# Altium schematic symbol library Ti.SchLib: 20 symbols
Pins are listed as number, name and electrical type; pins without a type are passive.

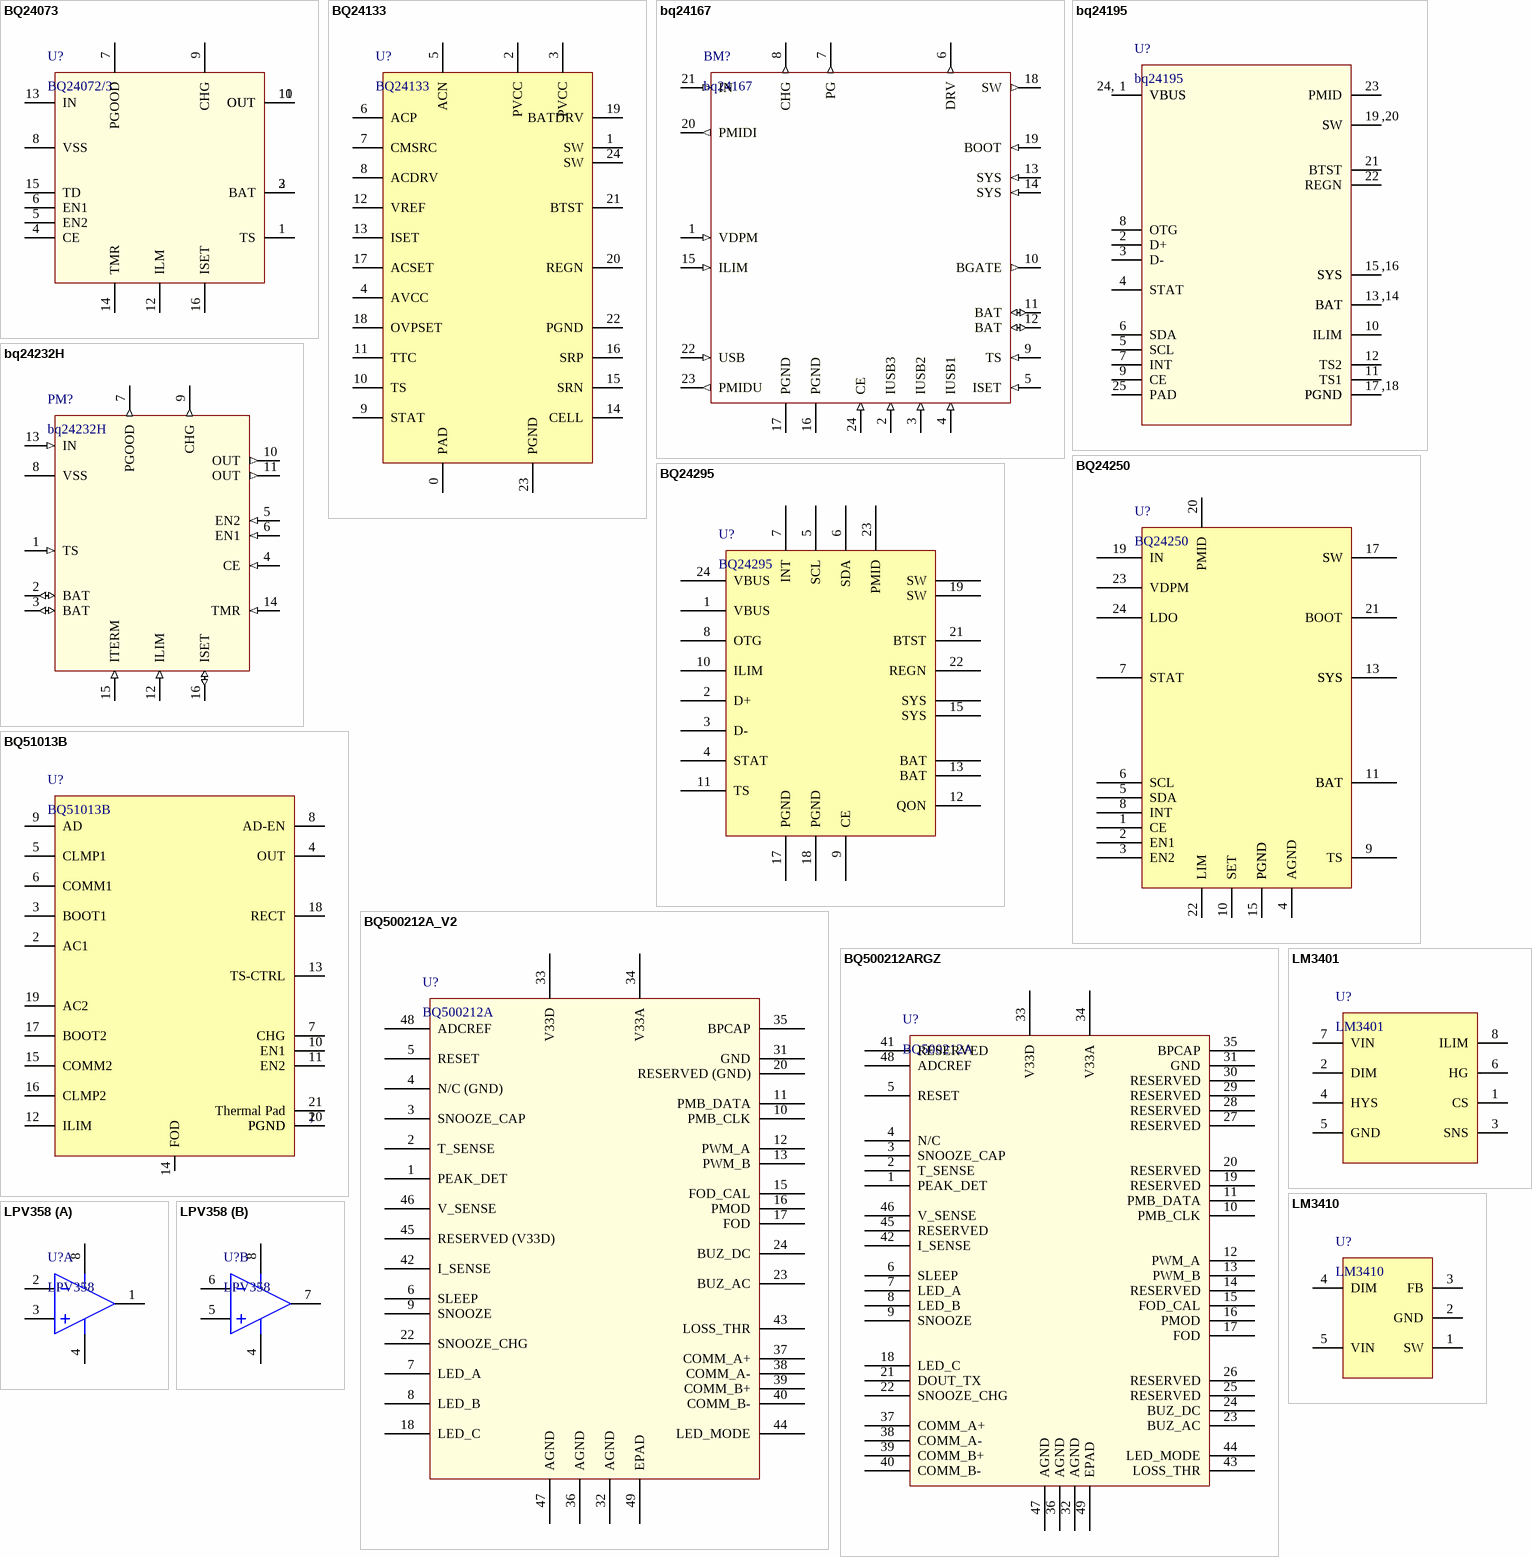
[diagram p0: symbols BQ24073 to LPV358]

## BQ24073
designator U?, comment BQ24072/3
Standalone Battery Management Chip
footprint QFN16
pins: 1 TS, 2 BAT, 3 BAT, 4 CE, 5 EN2, 6 EN1, 7 PGOOD, 8 VSS, 9 CHG, 10 OUT, 11 OUT, 12 ILM, 13 IN, 14 TMR, 15 TD, 16 ISET

## BQ24133
designator U?
1.6-MHz Synchronous Switched-Mode Li-Ion and Li-Polymer Stand-Alone Battery  Charger With Integrated MOSFETs and Power Path Selector
pins: 0 PAD, 1 SW, 2 PVCC, 3 PVCC, 4 AVCC, 5 ACN, 6 ACP, 7 CMSRC, 8 ACDRV, 9 STAT, 10 TS, 11 TTC, 12 VREF, 13 ISET, 14 CELL, 15 SRN, 16 SRP, 17 ACSET, 18 OVPSET, 19 BATDRV, 20 REGN, 21 BTST, 22 PGND, 23 PGND, 24 SW

## bq24167
designator BM?
2.5A, Dual-Input, Single Cell Switch Mode Li-Ion Battery Charger with Power Path  Management
pins: 1 VDPM (in), 2 IUSB3 (in), 3 IUSB2 (in), 4 IUSB1 (in), 5 ISET (in), 6 DRV (out), 7 PG (out), 8 CHG (out), 9 TS (in), 10 BGATE (out), 11 BAT (io), 12 BAT (io), 13 SYS (in), 14 SYS (in), 15 ILIM (in), 16 PGND, 17 PGND, 18 SW (out), 19 BOOT (in), 20 PMIDI (out), 21 IN (in), 22 USB (in), 23 PMIDU (out), 24 CE (in)

## bq24195
designator U?
A Battery charger manager published by Ti
footprint QFN24 (QFN, 24-Leads, Body 4.00x4.00mm, Pitch 0.50mm, Thermal Pad 2.70x2.70mm, IPC Low Density)
pins: 1 VBUS, 2 D+, 3 D-, 4 STAT, 5 SCL, 6 SDA, 7 INT, 8 OTG, 9 CE, 10 ILIM, 11 TS1, 12 TS2, 13 BAT, 14 BAT, 15 SYS, 16 SYS, 17 PGND, 18 PGND, 19 SW, 20 SW, 21 BTST, 22 REGN, 23 PMID, 24 VBUS, 25 PAD
text: 24,; ,20; ,16; ,14; ,18

## bq24232H
designator PM?
A power manager published by Ti
pins: 1 TS (in), 2 BAT (io), 3 BAT (io), 4 CE (in), 5 EN2 (in), 6 EN1 (in), 7 PGOOD (out), 8 VSS, 9 CHG (out), 10 OUT (out), 11 OUT (out), 12 ILIM (in), 13 IN (in), 14 TMR (in), 15 ITERM (in), 16 ISET (io)

## BQ24250
designator U?
I2C/SA Battery Management
footprint QFN24 (QFN, 24-Leads, Body 4.00x4.00mm, Pitch 0.50mm, Thermal Pad 2.70x2.70mm, IPC Low Density)
pins: 1 CE, 2 EN1, 3 EN2, 4 AGND, 5 SDA, 6 SCL, 7 STAT, 8 INT, 9 TS, 10 SET, 11 BAT, 12 BAT, 13 SYS, 14 SYS, 15 PGND, 16 PGND, 17 SW, 18 SW, 19 IN, 20 PMID, 21 BOOT, 22 LIM, 23 VDPM, 24 LDO

## BQ24295
designator U?
Single Battery Management
pins: 1 VBUS, 2 D+, 3 D-, 4 STAT, 5 SCL, 6 SDA, 7 INT, 8 OTG, 9 CE, 10 ILIM, 11 TS, 12 QON, 13 BAT, 14 BAT, 15 SYS, 16 SYS, 17 PGND, 18 PGND, 19 SW, 20 SW, 21 BTST, 22 REGN, 23 PMID, 24 VBUS

## BQ51013B
designator U?
Wireless transmitter
footprint Model Name (Footprint not found)
footprint VQFN20 (QFN, 20-Leads, Body 3.50x4.50mm, Pitch 1.50mm/0.50mm, Thermal Pad 1.98x3.05mm, IPC Medium Density)
pins: 1 PGND, 2 AC1, 3 BOOT1, 4 OUT, 5 CLMP1, 6 COMM1, 7 CHG, 8 AD-EN, 9 AD, 10 EN1, 11 EN2, 12 ILIM, 13 TS-CTRL, 14 FOD, 15 COMM2, 16 CLMP2, 17 BOOT2, 18 RECT, 19 AC2, 20 PGND, 21 Thermal Pad
text: ,

## BQ500212A_V2
designator U?, comment BQ500212A
pins: 1 PEAK_DET, 2 T_SENSE, 3 SNOOZE_CAP, 4 N/C (GND), 5 RESET, 6 SLEEP, 7 LED_A, 8 LED_B, 9 SNOOZE, 10 PMB_CLK, 11 PMB_DATA, 12 PWM_A, 13 PWM_B, 14 RESERVED hidden, 15 FOD_CAL, 16 PMOD, 17 FOD, 18 LED_C, 19 RESERVED hidden, 20 RESERVED (GND), 21 DOUT_TX hidden, 22 SNOOZE_CHG, 23 BUZ_AC, 24 BUZ_DC, 25 RESERVED hidden, 26 RESERVED hidden, 27 RESERVED hidden, 28 RESERVED hidden, 29 RESERVED hidden, 30 RESERVED hidden, 31 GND, 32 AGND, 33 V33D, 34 V33A, 35 BPCAP, 36 AGND, 37 COMM_A+, 38 COMM_A-, 39 COMM_B+, 40 COMM_B-, 41 RESERVED hidden, 42 I_SENSE, 43 LOSS_THR, 44 LED_MODE, 45 RESERVED (V33D), 46 V_SENSE, 47 AGND, 48 ADCREF, 49 EPAD

## BQ500212ARGZ
designator U?, comment BQ500212A
Wireless power transmitter WPC1.1 5V 5W
pins: 1 PEAK_DET, 2 T_SENSE, 3 SNOOZE_CAP, 4 N/C, 5 RESET, 6 SLEEP, 7 LED_A, 8 LED_B, 9 SNOOZE, 10 PMB_CLK, 11 PMB_DATA, 12 PWM_A, 13 PWM_B, 14 RESERVED, 15 FOD_CAL, 16 PMOD, 17 FOD, 18 LED_C, 19 RESERVED, 20 RESERVED, 21 DOUT_TX, 22 SNOOZE_CHG, 23 BUZ_AC, 24 BUZ_DC, 25 RESERVED, 26 RESERVED, 27 RESERVED, 28 RESERVED, 29 RESERVED, 30 RESERVED, 31 GND, 32 AGND, 33 V33D, 34 V33A, 35 BPCAP, 36 AGND, 37 COMM_A+, 38 COMM_A-, 39 COMM_B+, 40 COMM_B-, 41 RESERVED, 42 I_SENSE, 43 LOSS_THR, 44 LED_MODE, 45 RESERVED, 46 V_SENSE, 47 AGND, 48 ADCREF, 49 EPAD

## LM3401
designator U?
LED Driver
footprint VSSOP8 (TSOP, 8-Leads, Body 3.00x3.00mm, Pitch 0.65mm, IPC Medium Density)
pins: 1 CS, 2 DIM, 3 SNS, 4 HYS, 5 GND, 6 HG, 7 VIN, 8 ILIM

## LM3410
designator U?
Boost Converter
footprint SOT23-5 (SOT23, 5-Leads, Body 2.90x2.80mm, Pitch 0.95mm, IPC Medium Density)
pins: 1 SW, 2 GND, 3 FB, 4 DIM, 5 VIN

## LPV358
designator U?
LPV358 Op Amp
part A pins: 1 OUT, 2 IN-, 3 IN+, 4 V- (power), 8 V+ (power)
part B pins: 4 V- (power), 5 IN+, 6 IN-, 7 OUT, 8 V+ (power)

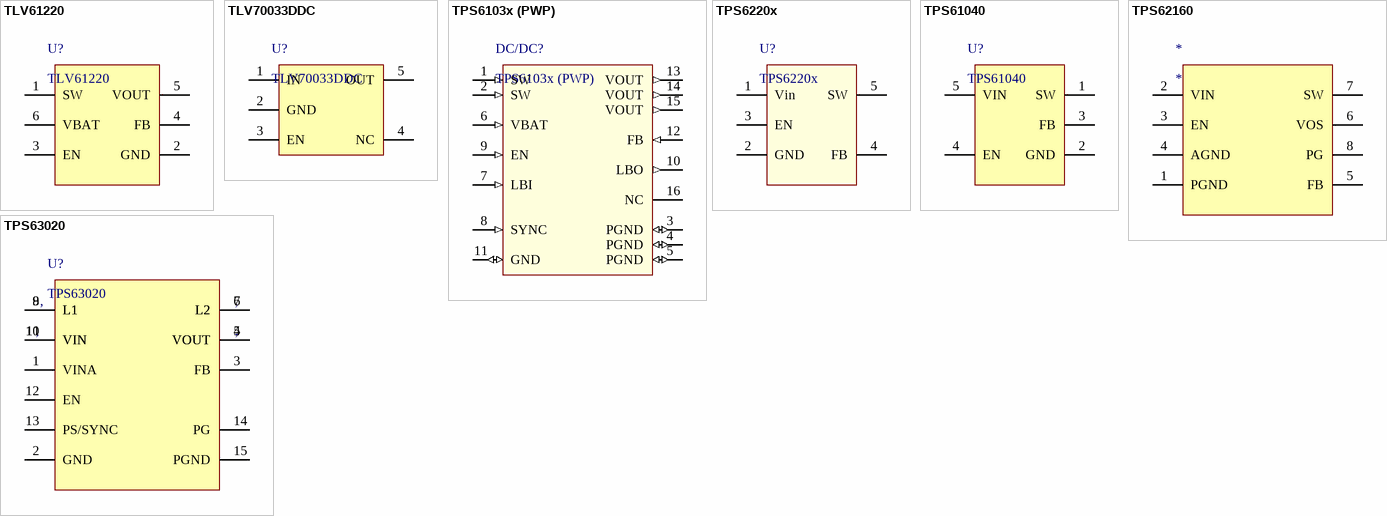
[diagram p1: symbols TLV61220 to TPS63020]

## TLV61220
designator U?
Boost Converter
footprint SOT23-6 (SOT23, 6-Leads, Body 2.90x2.80mm, Pitch 0.95mm, IPC Medium Density)
pins: 1 SW, 2 GND, 3 EN, 4 FB, 5 VOUT, 6 VBAT

## TLV70033DDC
designator U?
pins: 1 IN, 2 GND, 3 EN, 4 NC, 5 OUT

## TPS6103x (PWP)
designator DC/DC?
A DC to DC published  by Ti
pins: 1 SW (in), 2 SW (in), 3 PGND (io), 4 PGND (io), 5 PGND (io), 6 VBAT (in), 7 LBI (in), 8 SYNC (in), 9 EN (in), 10 LBO (out), 11 GND (io), 12 FB (in), 13 VOUT (out), 14 VOUT (out), 15 VOUT (out), 16 NC

## TPS6220x
designator U?
footprint SOT23-5 (SOT23, 5-Leads, Body 2.90x2.80mm, Pitch 0.95mm, IPC Medium Density)
pins: 1 Vin, 2 GND, 3 EN, 4 FB, 5 SW

## TPS61040
designator U?
footprint SOT23-5 (SOT23, 5-Leads, Body 2.90x2.80mm, Pitch 0.95mm, IPC Medium Density)
pins: 1 SW, 2 GND, 3 FB, 4 EN, 5 VIN

## TPS62160
designator *
footprint VSSOP8 (TSOP, 8-Leads, Body 3.00x3.00mm, Pitch 0.65mm, IPC Medium Density)
pins: 1 PGND, 2 VIN, 3 EN, 4 AGND, 5 FB, 6 VOS, 7 SW, 8 PG

## TPS63020
designator U?
footprint VSON14 (PSON, 14-Leads, Body 4.00x3.00mm, Pitch 0.50mm, Thermal Pad 2.85x1.58mm, IPC Medium Density)
pins: 1 VINA, 2 GND, 3 FB, 4 VOUT, 5 VOUT, 6 L2, 7 L2, 8 L1, 9 L1, 10 VIN, 11 VIN, 12 EN, 13 PS/SYNC, 14 PG, 15 PGND
text: ,